# Altium schematic symbol library Revolve2014_stdlib.SchLib: 16 symbols
Pins are listed as number, name and electrical type; pins without a type are passive.

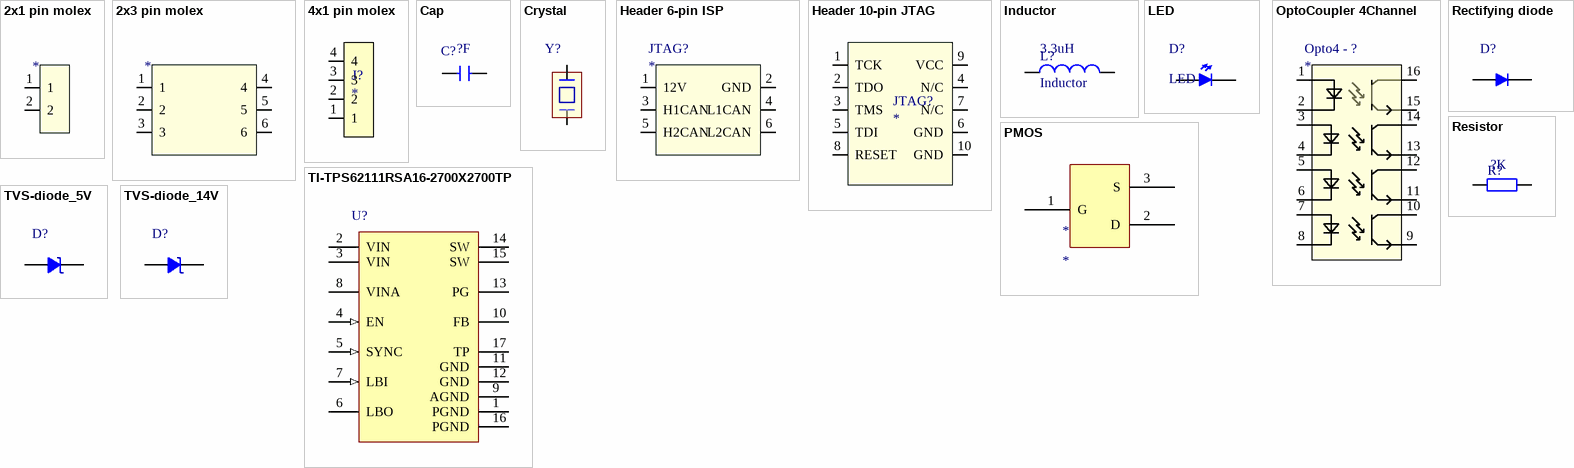
[diagram p0: symbols 2x1 pin molex to TVS-diode_14V]

## 2x1 pin molex
designator ?
footprint 1x2 pin molex
pins: 1, 2

## 2x3 pin molex
designator ?
footprint 2x3 pin molex
pins: 1, 2, 3, 4, 5, 6

## 4x1 pin molex
designator J?
Manufacturers number: 90136-2204
footprint 4 pin molex
pins: 1, 2, 3, 4

## Cap
designator C?  value ?F  (hidden comment: Cap)
Capacitor; Voltage: ?V
simulation model CAP (Capacitor)
signal-integrity model Cap
footprint CAPC1608L (Chip Capacitor, Body 1.6x0.8mm, IPC High Density)
footprint CAPC2012L (Chip Capacitor, Body 2.0x1.3mm, IPC High Density)
footprint CAPC3216L (Chip Capacitor, Body 3.2x1.6mm, IPC High Density)
pins: 1, 2

## Crystal
designator Y?  (value not drawn)
footprint SMD-CRYSTAL (Quartz Crystal, SM; Body 5.0x 3.2 mm (LxW))
pins: 1, 2, 3, 4

## Header 6-pin ISP
designator JTAG?
pins: 1 12V, 2 GND, 3 H1CAN, 4 L1CAN, 5 H2CAN, 6 L2CAN

## Header 10-pin JTAG
designator JTAG?
footprint 10pin Header
pins: 1 TCK, 2 TDO, 3 TMS, 4 N/C, 5 TDI, 6 GND, 7 N/C, 8 RESET, 9 VCC, 10 GND

## Inductor
designator L?  value 3.3uH
PCB_Layout: Complies with manufacturer's recommendation.; Published: 26-Sep-2008; DatasheetVersion: Oct-2007; PackageVersion: Oct-2007; PackageReference: PCMC063T; Publisher: Altium Limited; PackageDescription: SM Power Choke Coil; 2 Leads; Body 7.3 x 6.6 x 3.0 mm (LxWxH); ComponentLink1Description: Manufacturer Link; ComponentLink1URL: http://www.susumu.co.jp/; ComponentLink2Description: Datasheet; ComponentLink2URL: http://www.susumu.co.jp/english/pdf/products-j07-01.pdf
footprint PCMC063T (SM Inductor; 2 Leads; Body 7.3x6.6mm (LxW))
footprint PCMC063T_V (SM Inductor; 2 Leads; Body 7.3x6.6mm (LxW), SSM Recommended)
simulation model INDUCTOR (Inductor)
signal-integrity model Inductor
footprint 1608[0603] (Chip Capacitor, Body 1.6x0.8mm, IPC High Density)
footprint Drossel
pins: 1, 2

## LED
designator D?
footprint 1608[0603] (Chip Capacitor, Body 1.6x0.8mm, IPC High Density)
pins: 1 A, 2 K

## OptoCoupler 4Channel
designator Opto4 - ?
Digikey no: PS2801C-4-F3-ACT-ND; price: 13.52800
footprint SOP16 (SOP16 CEL-package (used for 4channel optocoupler))
footprint SOP16 (SOP16 CEL-package (used for 4channel optocoupler))
pins: 1 In1 +, 2 Out1 -, 3 In 2 +, 4 Out2 -, 5 In 3 +, 6 Out3 -, 7 In 4 +, 8 Out4 -, 9 Out 4 - , 10 Out 4 +, 11 Out 3 -, 12 Out 3 +, 13 Out 2 -, 14 Out 2 +, 15 Out 1 -, 16 Out 1 +

## PMOS
designator *
footprint SOT23 (SOT23, 3-Leads, Body 2,92x2,37mm, Pitch 0,95mm, IPC Medium Density)
pins: 1 G, 2 D, 3 S

## Rectifying diode
designator D?
footprint SMA
pins: 1 A, 2 K

## Resistor
designator R?  value ?K  (hidden comment: Resistor)
simulation model RESISTOR (Resistor)
signal-integrity model Res
footprint RESC1608L (Chip Resistor, Body 1.6x0.8mm, IPC High Density)
footprint RESC2012L (Chip Resistor, Body 2.0x1.3mm, IPC High Density)
footprint RESC3216L (Chip Resistor, Body 3.2x1.6mm, IPC High Density)
pins: 1, 2

## TI-TPS62111RSA16-2700X2700TP
designator U?
footprint RSA16-2700X2700TP (QFN, 16-Leads, Body 4x4mm, Pitch 0.65mm, Thermal Pad 2.7x2.7mm, TI Recommended)
pins: 1 PGND (power) "Power ground. Connect all power grounds to this pin.", 2 VIN (power) "Supply voltage input (power stage).", 3 VIN (power) "Supply voltage input (power stage).", 4 EN (in) "Enable. A logic high enables the converter; logic low forces the device into shutdown mode reducing the supply current to less than 2 µ A.", 5 SYNC (in) "Input for synchronization to external clock signal. Synchronizes the converter switching frequency to anexternal clock signal with CMOS level: SYNC = HIGH: Low-noise mode enabled, fixed frequency PWM operation is forced. (See Datasheet)", 6 LBO (hiz) "Open-drain, low-battery output. This pin is pulled low if LBI is below its threshold.", 7 LBI (in) "Low-battery input.", 8 VINA (power) "Supply voltage input (support circuits).", 9 AGND (power) "Analog ground, connect to GND and PGND.", 10 FB "Feedback pin for the fixed output voltage option. For the adjustable version, an external resistive divider is connected to this pin. The internal voltage divider is disabled for the adjustable version.", 11 GND (power) "Ground.", 12 GND (power) "Ground.", 13 PG (oc) "Power good comparator output. This is an open-drain output. A pullup resistor should be connected between PG and VOUT. The output goes active high when the output voltage is greater than 98.4% of the nominal value.", 14 SW (power) "Connect the inductor to this pin. This pin is the switch pin and connected to the drain of the internal power MOSFETS.", 15 SW (power) "Connect the inductor to this pin. This pin is the switch pin and connected to the drain of the internal power MOSFETS.", 16 PGND (power) "Power ground. Connect all power grounds to this pin.", 17 TP (power) "Connect to AGND."

## TVS-diode_5V
designator D?
footprint TVS-diode_5V
pins: A, K

## TVS-diode_14V
designator D?
footprint TVS-DIODE_14V
pins: A, K